# Altium schematic symbol library BCD.SCHLIB: 2 symbols
Pins are listed as number, name and electrical type; pins without a type are passive.

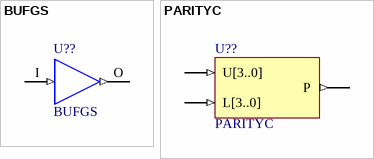
[diagram p0: symbols BUFGS to PARITYC]

## BUFGS
designator U??
pins: I (in), O (out)

## PARITYC
designator U??
pins: L[3..0] (in), P (out), U[3..0] (in)